# Altium footprint library QFP128_SOT320-2.PcbLib: 1 footprints
Each footprint in its own frame and in the unit in brackets; x right, y up, seen from the top. Pads: shape width x height; smd on the part's side, far side on the other; paste and mask are expansions set on the pad; w line width, h text height; cw(c..) or ccw(c..) is an arc to the next point about the centre after c.
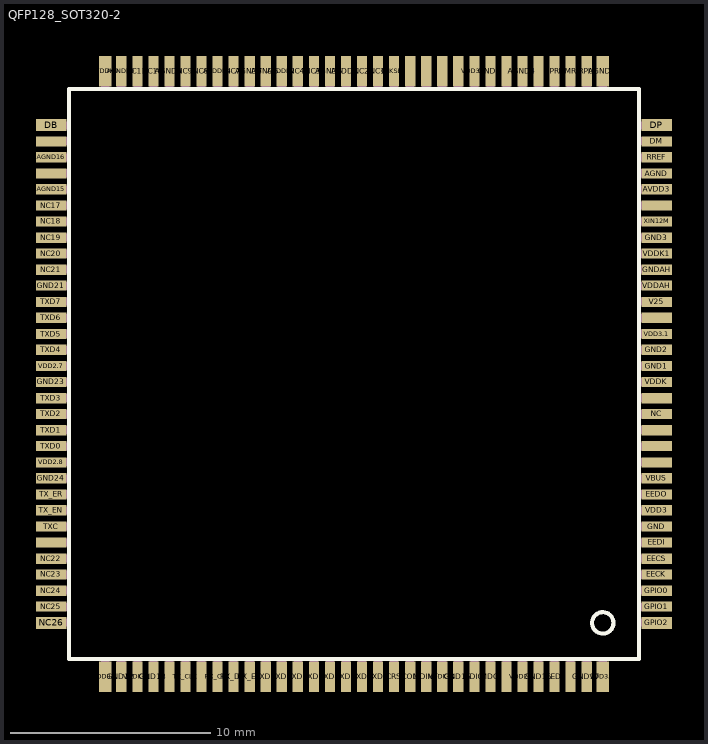
[diagram p0: the footprint, top view; thin cyan lines are the x and y axes]

## QFP128_SOT320-2 [mil]
pads (128):
  rect 60x20 smd: AGND(-1455.51,3144) AGND15(-2644.49,3113) AGND16(-2644.49,3176) AVDD3(-1455.51,3113) AVDDK14(-2644.49,3207) AVDDK16(-2644.49,3144) DM(-1455.51,3207) EECK(-1455.51,2357) EECS(-1455.51,2388) EEDI(-1455.51,2420) EEDO(-1455.51,2514) EXTWAKEUP_N(-1455.51,2577) FORCEFS_N(-1455.51,2703) GND(-1455.51,2451) GND1(-1455.51,2766) GND2(-1455.51,2798) GND3(-1455.51,3018) GND21(-2644.49,2924) GND23(-2644.49,2735) GND24(-2644.49,2546) GNDAH(-1455.51,2955) GPIO0(-1455.51,2325) GPIO1(-1455.51,2294) GTX_CLK(-2644.49,2420) INT_REGULATOR_EN(-1455.51,2861) NC(-1455.51,2672) NC17(-2644.49,3081) NC18(-2644.49,3050) NC19(-2644.49,3018) NC20(-2644.49,2987) NC21(-2644.49,2955) NC22(-2644.49,2388) NC23(-2644.49,2357) NC24(-2644.49,2325) NC25(-2644.49,2294) RESET_N(-1455.51,2609) RREF(-1455.51,3176) TESTSPEEDUP(-1455.51,2640) TX_EN(-2644.49,2483) TX_ER(-2644.49,2514) TXC(-2644.49,2451) TXD0(-2644.49,2609) TXD1(-2644.49,2640) TXD2(-2644.49,2672) TXD3(-2644.49,2703) TXD4(-2644.49,2798) TXD5(-2644.49,2829) TXD6(-2644.49,2861) TXD7(-2644.49,2892) V25(-1455.51,2892) VBUS(-1455.51,2546) VDD2.7(-2644.49,2766) VDD2.8(-2644.49,2577) VDD3(-1455.51,2483) VDD3.1(-1455.51,2829) VDDAH(-1455.51,2924) VDDK(-1455.51,2735) VDDK1(-1455.51,2987) XIN12M(-1455.51,3050) XOUT12M(-1455.51,3081)
  rect 24x60 smd: AGND1(-1561.81,3345) AVDDK9(-2538.19,3345) VDD3.4(-2538.19,2156) VDD3.5(-1561.81,2156)
  rect 20x60 smd: AGND4(-1719.29,3345) AGND5(-2097.24,3345) AGND6(-2223.23,3345) AGND7(-2254.72,3345) AGND9(-2412.2,3345) AGND10(-2506.69,3345) AVDD3.1(-1687.8,3345) AVDD3.2(-1750.79,3345) AVDDK(-2065.75,3345) AVDDK2(-2191.73,3345) AVDDK4(-2317.72,3345) CLK60EXT(-1939.76,3345) CLKSEL(-1971.26,3345) COL(-1939.76,2156) CRS(-1971.26,2156) DMRS(-1624.8,3345) DPRS(-1656.3,3345) GND4(-1782.28,3345) GND12(-2506.69,2156) GND13(-2443.7,2156) GND15(-1845.28,2156) GND16(-1687.8,2156) GND17(-1593.31,2156) HS_TEST_MODE(-1845.28,3345) LED(-1656.3,2156) MDC(-1782.28,2156) MDINT(-1908.27,2156) MDIO(-1813.78,2156) NC1(-2002.76,3345) NC2(-2034.25,3345) NC3(-2128.74,3345) NC4(-2160.24,3345) NC7(-2286.22,3345) NC8(-2349.21,3345) NC9(-2380.71,3345) NC10(-2443.7,3345) NC11(-2475.2,3345) PHYRST_N(-1750.79,2156) RGMII_EN(-2349.21,2156) RPU(-1593.31,3345) RX_CLK(-2317.72,2156) RX_DV(-2286.22,2156) RX_ER(-2254.72,2156) RXD0(-2223.23,2156) RXD1(-2191.73,2156) RXD2(-2160.24,2156) RXD3(-2128.74,2156) RXD4(-2097.24,2156) RXD5(-2065.75,2156) RXD6(-2034.25,2156) RXD7(-2002.76,2156) SCAN_ENABLE(-1908.27,3345) SCAN_TEST(-1876.77,3345) TX_CLK(-2380.71,2156) USB_SPEED_LED(-1624.8,2156) VDD2.3(-1719.29,2156) VDD3.3(-1813.78,3345) VDDK11(-2475.2,2156) VDDK14(-1876.77,2156) XIN125M(-2412.2,2156)
  rect 60x24 smd: DB(-2644.49,3239) DP(-1455.51,3239) GPIO2(-1455.51,2262) NC26(-2644.49,2262)
Top Overlay:
  circle w8: c-1561.81,2262 r21
  lines w8: -2609.06,2191 -2609.06,3310 -1490.94,3310 -1490.94,2191 -2609.06,2191
Mechanical 2:
  text "AX88178" at -1900,2550 h77.5
Mechanical 4:
  text "USB TO ETHERNET" at -2300,2900 h77.5
Mechanical 16:
  region: -1441.85,2254.63 -1441.85,2270.37 -1488.85,2270.37 -1488.85,2254.63
  region: -1441.85,2285.63 -1441.85,2301.37 -1488.85,2301.37 -1488.85,2285.63
  region: -1441.85,2317.63 -1441.85,2333.37 -1488.85,2333.37 -1488.85,2317.63
  region: -1441.85,2348.63 -1441.85,2364.37 -1488.85,2364.37 -1488.85,2348.63
  region: -1441.85,2380.63 -1441.85,2396.37 -1488.85,2396.37 -1488.85,2380.63
  region: -1441.85,2411.63 -1441.85,2427.37 -1488.85,2427.37 -1488.85,2411.63
  region: -1441.85,2443.63 -1441.85,2459.37 -1488.85,2459.37 -1488.85,2443.63
  region: -1441.85,2474.63 -1441.85,2490.37 -1488.85,2490.37 -1488.85,2474.63
  region: -1441.85,2506.63 -1441.85,2522.37 -1488.85,2522.37 -1488.85,2506.63
  region: -1441.85,2537.63 -1441.85,2553.37 -1488.85,2553.37 -1488.85,2537.63
  region: -1441.85,2569.63 -1441.85,2585.37 -1488.85,2585.37 -1488.85,2569.63
  region: -1441.85,2600.63 -1441.85,2616.37 -1488.85,2616.37 -1488.85,2600.63
  region: -1441.85,2632.63 -1441.85,2648.37 -1488.85,2648.37 -1488.85,2632.63
  region: -1441.85,2663.63 -1441.85,2679.37 -1488.85,2679.37 -1488.85,2663.63
  region: -1441.85,2695.63 -1441.85,2711.37 -1488.85,2711.37 -1488.85,2695.63
  region: -1441.85,2726.63 -1441.85,2742.37 -1488.85,2742.37 -1488.85,2726.63
  region: -1441.85,2758.63 -1441.85,2774.37 -1488.85,2774.37 -1488.85,2758.63
  region: -1441.85,2789.63 -1441.85,2805.37 -1488.85,2805.37 -1488.85,2789.63
  region: -1441.85,2821.63 -1441.85,2837.37 -1488.85,2837.37 -1488.85,2821.63
  region: -1441.85,2852.63 -1441.85,2868.37 -1488.85,2868.37 -1488.85,2852.63
  region: -1441.85,2884.63 -1441.85,2900.37 -1488.85,2900.37 -1488.85,2884.63
  region: -1441.85,2915.63 -1441.85,2931.37 -1488.85,2931.37 -1488.85,2915.63
  region: -1441.85,2947.63 -1441.85,2963.37 -1488.85,2963.37 -1488.85,2947.63
  region: -1441.85,2978.63 -1441.85,2994.37 -1488.85,2994.37 -1488.85,2978.63
  region: -1441.85,3010.63 -1441.85,3026.37 -1488.85,3026.37 -1488.85,3010.63
  region: -1441.85,3041.63 -1441.85,3057.37 -1488.85,3057.37 -1488.85,3041.63
  region: -1441.85,3073.63 -1441.85,3089.37 -1488.85,3089.37 -1488.85,3073.63
  region: -1441.85,3104.63 -1441.85,3120.37 -1488.85,3120.37 -1488.85,3104.63
  region: -1441.85,3136.63 -1441.85,3152.37 -1488.85,3152.37 -1488.85,3136.63
  region: -1441.85,3167.63 -1441.85,3183.37 -1488.85,3183.37 -1488.85,3167.63
  region: -1441.85,3199.63 -1441.85,3215.37 -1488.85,3215.37 -1488.85,3199.63
  region: -1441.85,3230.63 -1441.85,3246.37 -1488.85,3246.37 -1488.85,3230.63
  region: -1553.81,3311.38 -1553.81,3358.62 -1569.81,3358.62 -1569.81,3311.38
  region: -1585.31,3311.38 -1585.31,3358.62 -1601.31,3358.62 -1601.31,3311.38
  region: -1616.8,3311.38 -1616.8,3358.62 -1632.8,3358.62 -1632.8,3311.38
  region: -1648.3,3311.38 -1648.3,3358.62 -1664.3,3358.62 -1664.3,3311.38
  region: -1679.8,3311.38 -1679.8,3358.62 -1695.8,3358.62 -1695.8,3311.38
  region: -1711.29,3311.38 -1711.29,3358.62 -1727.29,3358.62 -1727.29,3311.38
  region: -1742.79,3311.38 -1742.79,3358.62 -1758.79,3358.62 -1758.79,3311.38
  region: -1774.28,3311.38 -1774.28,3358.62 -1790.28,3358.62 -1790.28,3311.38
  region: -1805.78,3311.38 -1805.78,3358.62 -1821.78,3358.62 -1821.78,3311.38
  region: -1837.28,3311.38 -1837.28,3358.62 -1853.28,3358.62 -1853.28,3311.38
  region: -1868.77,3311.38 -1868.77,3358.62 -1884.77,3358.62 -1884.77,3311.38
  region: -1900.27,3311.38 -1900.27,3358.62 -1916.27,3358.62 -1916.27,3311.38
  region: -1931.76,3311.38 -1931.76,3358.62 -1947.76,3358.62 -1947.76,3311.38
  region: -1963.26,3311.38 -1963.26,3358.62 -1979.26,3358.62 -1979.26,3311.38
  region: -1994.76,3311.38 -1994.76,3358.62 -2010.76,3358.62 -2010.76,3311.38
  region: -2026.25,3311.38 -2026.25,3358.62 -2042.25,3358.62 -2042.25,3311.38
  region: -2057.75,3311.38 -2057.75,3358.62 -2073.75,3358.62 -2073.75,3311.38
  region: -2089.24,3311.38 -2089.24,3358.62 -2105.24,3358.62 -2105.24,3311.38
  region: -2120.74,3311.38 -2120.74,3358.62 -2136.74,3358.62 -2136.74,3311.38
  region: -2152.24,3311.38 -2152.24,3358.62 -2168.24,3358.62 -2168.24,3311.38
  region: -2183.73,3311.38 -2183.73,3358.62 -2199.73,3358.62 -2199.73,3311.38
  region: -2215.23,3311.38 -2215.23,3358.62 -2231.23,3358.62 -2231.23,3311.38
  region: -2246.72,3311.38 -2246.72,3358.62 -2262.72,3358.62 -2262.72,3311.38
  region: -2278.22,3311.38 -2278.22,3358.62 -2294.22,3358.62 -2294.22,3311.38
  region: -2309.72,3311.38 -2309.72,3358.62 -2325.72,3358.62 -2325.72,3311.38
  region: -2341.21,3311.38 -2341.21,3358.62 -2357.21,3358.62 -2357.21,3311.38
  region: -2372.71,3311.38 -2372.71,3358.62 -2388.71,3358.62 -2388.71,3311.38
  region: -2404.2,3311.38 -2404.2,3358.62 -2420.2,3358.62 -2420.2,3311.38
  region: -2435.7,3311.38 -2435.7,3358.62 -2451.7,3358.62 -2451.7,3311.38
  region: -2467.2,3311.38 -2467.2,3358.62 -2483.2,3358.62 -2483.2,3311.38
  region: -2498.69,3311.38 -2498.69,3358.62 -2514.69,3358.62 -2514.69,3311.38
  region: -2530.19,3311.38 -2530.19,3358.62 -2546.19,3358.62 -2546.19,3311.38
  region: -2611.15,3230.63 -2611.15,3246.37 -2658.15,3246.37 -2658.15,3230.63
  region: -2611.15,3199.63 -2611.15,3215.37 -2658.15,3215.37 -2658.15,3199.63
  region: -2611.15,3167.63 -2611.15,3183.37 -2658.15,3183.37 -2658.15,3167.63
  region: -2611.15,3136.63 -2611.15,3152.37 -2658.15,3152.37 -2658.15,3136.63
  region: -2611.15,3104.63 -2611.15,3120.37 -2658.15,3120.37 -2658.15,3104.63
  region: -2611.15,3073.63 -2611.15,3089.37 -2658.15,3089.37 -2658.15,3073.63
  region: -2611.15,3041.63 -2611.15,3057.37 -2658.15,3057.37 -2658.15,3041.63
  region: -2611.15,3010.63 -2611.15,3026.37 -2658.15,3026.37 -2658.15,3010.63
  region: -2611.15,2978.63 -2611.15,2994.37 -2658.15,2994.37 -2658.15,2978.63
  region: -2611.15,2947.63 -2611.15,2963.37 -2658.15,2963.37 -2658.15,2947.63
  region: -2611.15,2915.63 -2611.15,2931.37 -2658.15,2931.37 -2658.15,2915.63
  region: -2611.15,2884.63 -2611.15,2900.37 -2658.15,2900.37 -2658.15,2884.63
  region: -2611.15,2852.63 -2611.15,2868.37 -2658.15,2868.37 -2658.15,2852.63
  region: -2611.15,2821.63 -2611.15,2837.37 -2658.15,2837.37 -2658.15,2821.63
  region: -2611.15,2789.63 -2611.15,2805.37 -2658.15,2805.37 -2658.15,2789.63
  region: -2611.15,2758.63 -2611.15,2774.37 -2658.15,2774.37 -2658.15,2758.63
  region: -2611.15,2726.63 -2611.15,2742.37 -2658.15,2742.37 -2658.15,2726.63
  region: -2611.15,2695.63 -2611.15,2711.37 -2658.15,2711.37 -2658.15,2695.63
  region: -2611.15,2663.63 -2611.15,2679.37 -2658.15,2679.37 -2658.15,2663.63
  region: -2611.15,2632.63 -2611.15,2648.37 -2658.15,2648.37 -2658.15,2632.63
  region: -2611.15,2600.63 -2611.15,2616.37 -2658.15,2616.37 -2658.15,2600.63
  region: -2611.15,2569.63 -2611.15,2585.37 -2658.15,2585.37 -2658.15,2569.63
  region: -2611.15,2537.63 -2611.15,2553.37 -2658.15,2553.37 -2658.15,2537.63
  region: -2611.15,2506.63 -2611.15,2522.37 -2658.15,2522.37 -2658.15,2506.63
  region: -2611.15,2474.63 -2611.15,2490.37 -2658.15,2490.37 -2658.15,2474.63
  region: -2611.15,2443.63 -2611.15,2459.37 -2658.15,2459.37 -2658.15,2443.63
  region: -2611.15,2411.63 -2611.15,2427.37 -2658.15,2427.37 -2658.15,2411.63
  region: -2611.15,2380.63 -2611.15,2396.37 -2658.15,2396.37 -2658.15,2380.63
  region: -2611.15,2348.63 -2611.15,2364.37 -2658.15,2364.37 -2658.15,2348.63
  region: -2611.15,2317.63 -2611.15,2333.37 -2658.15,2333.37 -2658.15,2317.63
  region: -2611.15,2285.63 -2611.15,2301.37 -2658.15,2301.37 -2658.15,2285.63
  region: -2611.15,2254.63 -2611.15,2270.37 -2658.15,2270.37 -2658.15,2254.63
  region: -2530.19,2142.38 -2530.19,2189.62 -2546.19,2189.62 -2546.19,2142.38
  region: -2498.69,2142.38 -2498.69,2189.62 -2514.69,2189.62 -2514.69,2142.38
  region: -2467.2,2142.38 -2467.2,2189.62 -2483.2,2189.62 -2483.2,2142.38
  region: -2435.7,2142.38 -2435.7,2189.62 -2451.7,2189.62 -2451.7,2142.38
  region: -2404.2,2142.38 -2404.2,2189.62 -2420.2,2189.62 -2420.2,2142.38
  region: -2372.71,2142.38 -2372.71,2189.62 -2388.71,2189.62 -2388.71,2142.38
  region: -2341.21,2142.38 -2341.21,2189.62 -2357.21,2189.62 -2357.21,2142.38
  region: -2309.72,2142.38 -2309.72,2189.62 -2325.72,2189.62 -2325.72,2142.38
  region: -2278.22,2142.38 -2278.22,2189.62 -2294.22,2189.62 -2294.22,2142.38
  region: -2246.72,2142.38 -2246.72,2189.62 -2262.72,2189.62 -2262.72,2142.38
  region: -2215.23,2142.38 -2215.23,2189.62 -2231.23,2189.62 -2231.23,2142.38
  region: -2183.73,2142.38 -2183.73,2189.62 -2199.73,2189.62 -2199.73,2142.38
  region: -2152.24,2142.38 -2152.24,2189.62 -2168.24,2189.62 -2168.24,2142.38
  region: -2120.74,2142.38 -2120.74,2189.62 -2136.74,2189.62 -2136.74,2142.38
  region: -2089.24,2142.38 -2089.24,2189.62 -2105.24,2189.62 -2105.24,2142.38
  region: -2057.75,2142.38 -2057.75,2189.62 -2073.75,2189.62 -2073.75,2142.38
  region: -2026.25,2142.38 -2026.25,2189.62 -2042.25,2189.62 -2042.25,2142.38
  region: -1994.76,2142.38 -1994.76,2189.62 -2010.76,2189.62 -2010.76,2142.38
  region: -1963.26,2142.38 -1963.26,2189.62 -1979.26,2189.62 -1979.26,2142.38
  region: -1931.76,2142.38 -1931.76,2189.62 -1947.76,2189.62 -1947.76,2142.38
  region: -1900.27,2142.38 -1900.27,2189.62 -1916.27,2189.62 -1916.27,2142.38
  region: -1868.77,2142.38 -1868.77,2189.62 -1884.77,2189.62 -1884.77,2142.38
  region: -1837.28,2142.38 -1837.28,2189.62 -1853.28,2189.62 -1853.28,2142.38
  region: -1805.78,2142.38 -1805.78,2189.62 -1821.78,2189.62 -1821.78,2142.38
  region: -1774.28,2142.38 -1774.28,2189.62 -1790.28,2189.62 -1790.28,2142.38
  region: -1742.79,2142.38 -1742.79,2189.62 -1758.79,2189.62 -1758.79,2142.38
  region: -1711.29,2142.38 -1711.29,2189.62 -1727.29,2189.62 -1727.29,2142.38
  region: -1679.8,2142.38 -1679.8,2189.62 -1695.8,2189.62 -1695.8,2142.38
  region: -1648.3,2142.38 -1648.3,2189.62 -1664.3,2189.62 -1664.3,2142.38
  region: -1616.8,2142.38 -1616.8,2189.62 -1632.8,2189.62 -1632.8,2142.38
  region: -1585.31,2142.38 -1585.31,2189.62 -1601.31,2189.62 -1601.31,2142.38
  region: -1553.81,2142.38 -1553.81,2189.62 -1569.81,2189.62 -1569.81,2142.38